# Altium footprint library Fuse.PcbLib: 3 footprints
Each footprint in its own frame and in the unit in brackets; x right, y up, seen from the top. Pads: shape width x height; smd on the part's side, far side on the other; paste and mask are expansions set on the pad; w line width, h text height; cw(c..) or ccw(c..) is an arc to the next point about the centre after c.
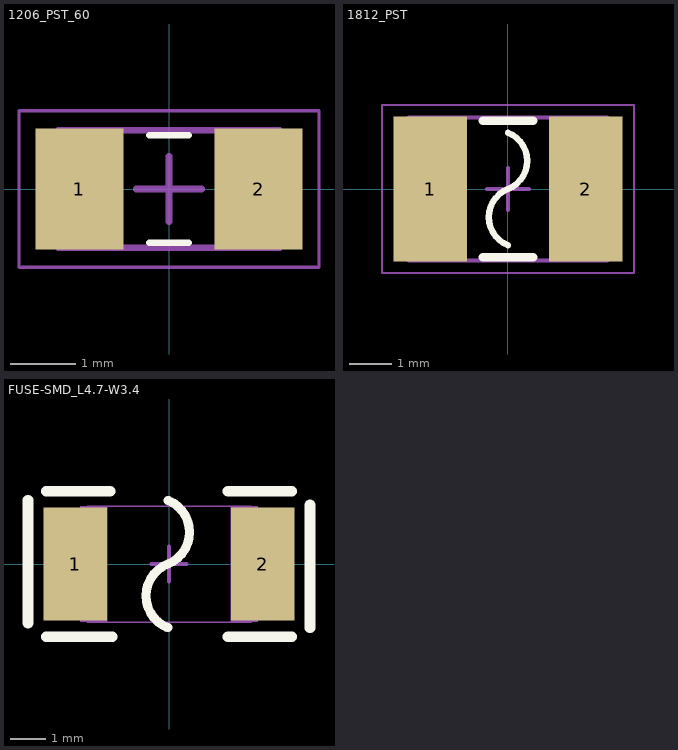
[diagram p0: the footprints below, top view; thin cyan lines are the x and y axes]

## 1206_PST_60 [mm] "PST 1206 0.60mm height"
height 0.6
pads (2):
  rect 1.35x1.85 smd: 1(-1.375,0) 2(1.375,0)
Top Overlay:
  lines w0.1: -0.3,-0.825 0.3,-0.825 ; -0.3,0.825 0.3,0.825
Top Component Center:
  lines w0.1: -0.5,0 0.5,0 ; 0,-0.5 0,0.5
Top Component Outline:
  lines w0.1: -1.7,-0.9 1.7,-0.9 1.7,0.9 -1.7,0.9 -1.7,-0.9
Top Courtyard:
  lines w0.05: -2.3,-1.2 2.3,-1.2 2.3,1.2 -2.3,1.2 -2.3,-1.2
3D body "1206.step": height 0.6, standoff 0, extent -1.7,-0.9 1.7,0.9

## 1812_PST [mm]
height 0.71
pads (2):
  rect 1.75x3.45 smd: 1(-1.85,0) 2(1.85,0)
Top Overlay:
  lines w0.15: 0,-1.341 cw(c0.262,-0.67) 0,0 ccw(c-0.262,0.67) 0,1.341
  lines w0.2: -0.6,-1.625 0.6,-1.625 ; -0.6,1.625 0.6,1.625
Top Component Center:
  lines w0.1: -0.5,0 0.5,0 ; 0,-0.5 0,0.5
Top Component Outline:
  lines w0.1: -2.365,-1.705 2.365,-1.705 2.365,1.705 -2.365,1.705 -2.365,-1.705
Top Courtyard:
  lines w0.05: -3,-2 3,-2 3,2 -3,2 -3,-2
3D body "1812_PST.step": height 0.71, standoff 0, extent -2.365,-1.705 2.365,1.705

## FUSE-SMD_L4.7-W3.4 [mm]
pads (2):
  rect 1.78x3.15 smd paste+0 mask+0.051: 1(-2.615,0) 2(2.615,0)
Top Overlay:
  lines w0.254: -0.033,-1.778 cw(c0.315,-0.889) -0.033,0 ccw(c-0.381,0.889) -0.033,1.778
  lines w0.3: -3.937,-1.651 -3.937,1.778 ; -3.429,-2.032 -1.588,-2.032 ; -3.429,2.032 -1.651,2.032 ; 1.651,-2.032 3.429,-2.032 ; 1.651,2.032 3.429,2.032 ; 3.937,-1.778 3.937,1.651
Top Component Center:
  lines w0.1: -0.5,0 0.5,0 ; 0,-0.5 0,0.5
Top Component Outline:
  region: 1.727,1.62 2.477,1.62 2.477,-1.62 1.727,-1.62
  region: -2.479,1.62 -1.729,1.62 -1.729,-1.62 -2.479,-1.62
  lines w0.051: -2.274,-1.625 -2.274,1.615 2.286,1.615 2.286,-1.625 -2.274,-1.625
3D body: height 1.02, standoff 0, extent 1.524,-1.651 2.286,1.651
3D body: height 1.02, standoff 0, extent -2.286,-1.651 -1.524,1.651
3D body: height 1.02, standoff 0, extent -1.524,-1.651 1.524,1.651